# Altium footprint library Package_SO.PcbLib: 393 footprints (part 5 of 25)
Each footprint in its own frame and in the unit in brackets; x right, y up, seen from the top. Pads: shape width x height; smd on the part's side, far side on the other; paste and mask are expansions set on the pad; w line width, h text height; cw(c..) or ccw(c..) is an arc to the next point about the centre after c.
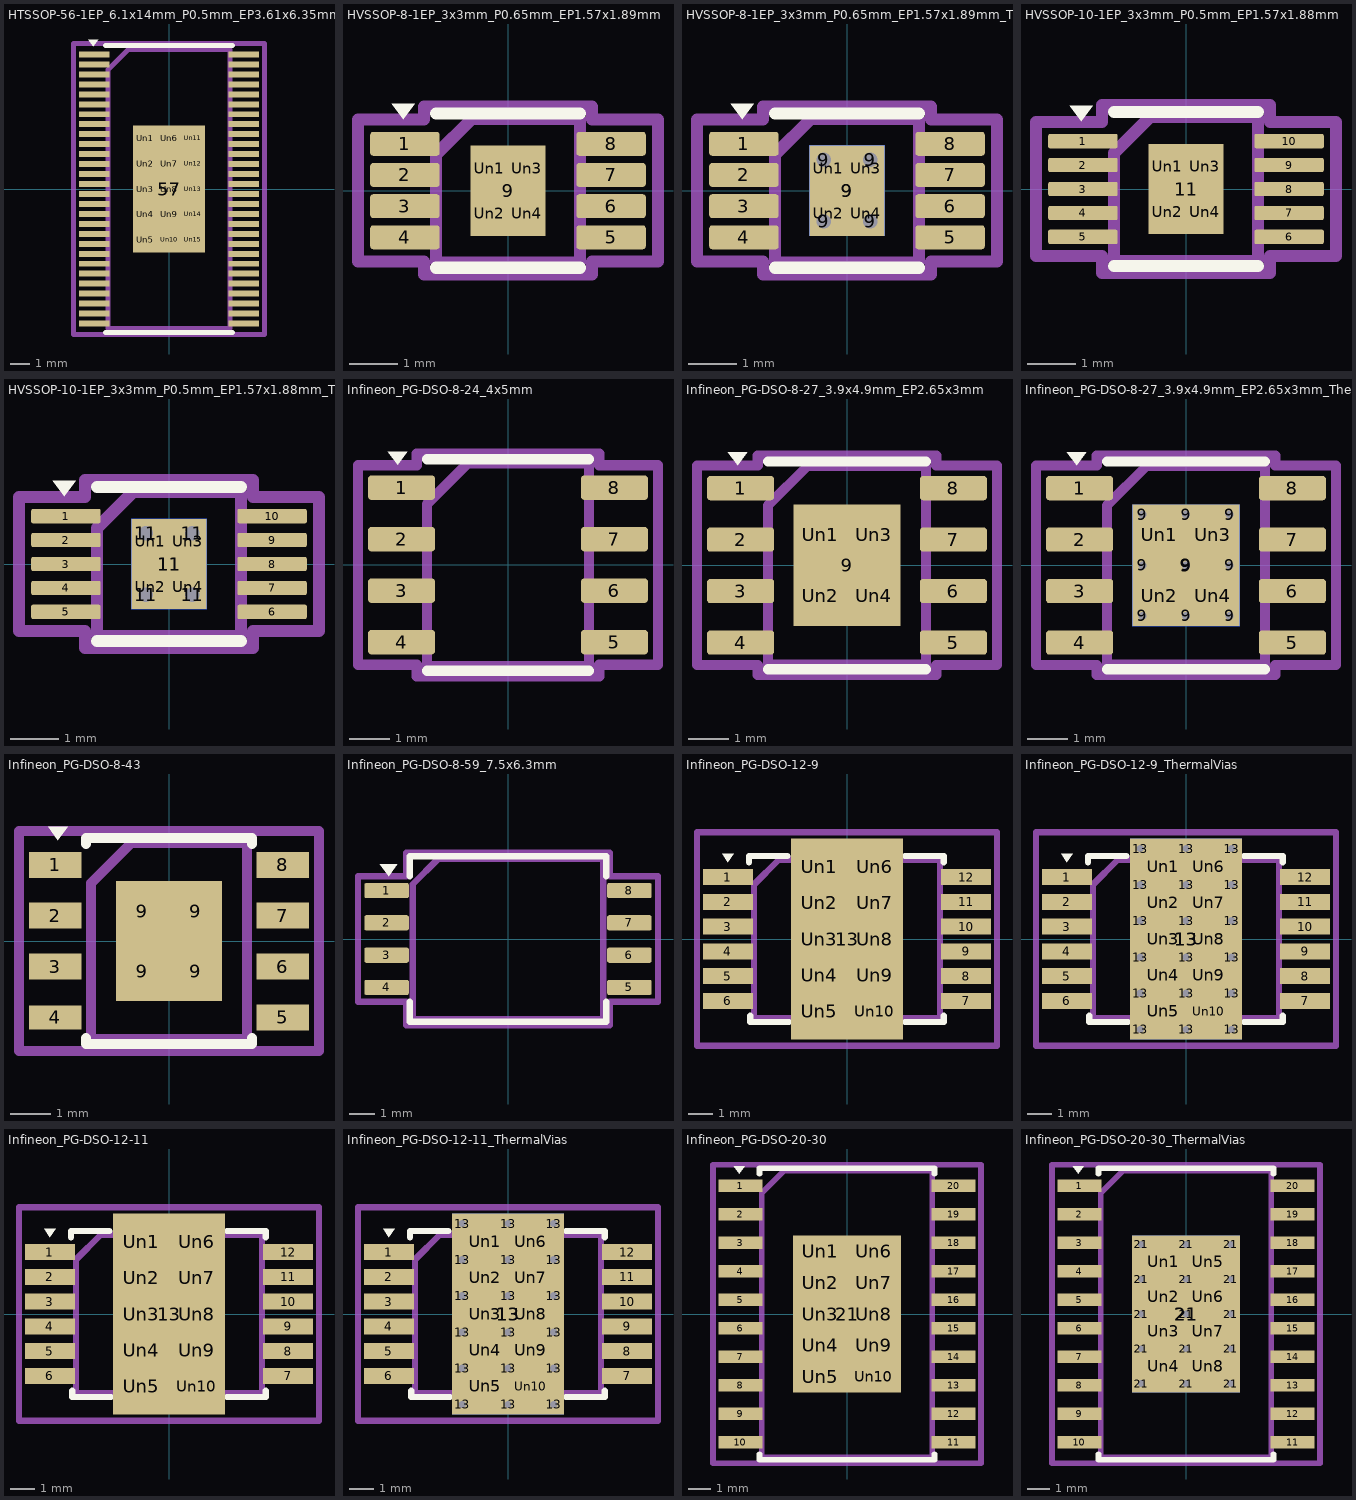
[diagram p4: the footprints below, top view; thin cyan lines are the x and y axes]

## HTSSOP-56-1EP_6.1x14mm_P0.5mm_EP3.61x6.35mm [mm]
pads (72):
  rect 1.55x0.3 smd: 1(-3.75,6.75) 2(-3.75,6.25) 3(-3.75,5.75) 4(-3.75,5.25) 5(-3.75,4.75) 6(-3.75,4.25) 7(-3.75,3.75) 8(-3.75,3.25) 9(-3.75,2.75) 10(-3.75,2.25) 11(-3.75,1.75) 12(-3.75,1.25) 13(-3.75,0.75) 14(-3.75,0.25) 15(-3.75,-0.25) 16(-3.75,-0.75) 17(-3.75,-1.25) 18(-3.75,-1.75) 19(-3.75,-2.25) 20(-3.75,-2.75) 21(-3.75,-3.25) 22(-3.75,-3.75) 23(-3.75,-4.25) 24(-3.75,-4.75) 25(-3.75,-5.25) 26(-3.75,-5.75) 27(-3.75,-6.25) 28(-3.75,-6.75) 29(3.75,-6.75) 30(3.75,-6.25) 31(3.75,-5.75) 32(3.75,-5.25) 33(3.75,-4.75) 34(3.75,-4.25) 35(3.75,-3.75) 36(3.75,-3.25) 37(3.75,-2.75) 38(3.75,-2.25) 39(3.75,-1.75) 40(3.75,-1.25) 41(3.75,-0.75) 42(3.75,-0.25) 43(3.75,0.25) 44(3.75,0.75) 45(3.75,1.25) 46(3.75,1.75) 47(3.75,2.25) 48(3.75,2.75) 49(3.75,3.25) 50(3.75,3.75) 51(3.75,4.25) 52(3.75,4.75) 53(3.75,5.25) 54(3.75,5.75) 55(3.75,6.25) 56(3.75,6.75)
  rect 3.61x6.35 smd: 57(0,0)
  rect 0.96x1.03 on Top Paste: Un1(-1.203,2.54) Un2(-1.203,1.27) Un3(-1.203,0) Un4(-1.203,-1.27) Un5(-1.203,-2.54) Un6(0,2.54) Un7(0,1.27) Un8(0,0) Un9(0,-1.27) Un10(0,-2.54) Un11(1.203,2.54) Un12(1.203,1.27) Un13(1.203,0) Un14(1.203,-1.27) Un15(1.203,-2.54)
F.SilkS:
  region: -3.8,7.15 -4.04,7.48 -3.56,7.48
  lines w0.254: -3.175,-7.2 3.175,-7.2 ; -3.175,7.2 3.175,7.2
Top Assembly:
  lines w0.254: -3.05,-7 3.05,-7 3.05,7 -2.05,7 -3.05,6 -3.05,-7
  text "'.Designator'" at -4.047,-0.84 h1
Top Courtyard:
  lines w0.254: -4.8,-7.3 4.8,-7.3 4.8,7.3 -4.8,7.3 -4.8,-7.3
Top Designator:
  text ".Designator" at -7.618,-0.481 h1.52

## HVSSOP-8-1EP_3x3mm_P0.65mm_EP1.57x1.89mm [mm]
pads (13):
  rrect25% 1.45x0.5 smd: 1(-2.15,0.975) 2(-2.15,0.325) 3(-2.15,-0.325) 4(-2.15,-0.975) 5(2.15,-0.975) 6(2.15,-0.325) 7(2.15,0.325) 8(2.15,0.975)
  rect 1.57x1.89 smd: 9(0,0)
  rrect25% 0.63x0.76 on Top Paste: Un1(-0.39,0.47) Un2(-0.39,-0.47) Un3(0.39,0.47) Un4(0.39,-0.47)
F.SilkS:
  region: -2.187,1.485 -2.428,1.815 -1.947,1.815
  lines w0.254: -1.5,-1.61 0,-1.61 1.5,-1.61 ; -1.5,1.61 0,1.61 1.5,1.61
Top Assembly:
  lines w0.254: -1.5,-1.5 1.5,-1.5 1.5,1.5 -0.75,1.5 -1.5,0.75 -1.5,-1.5
  text "'.Designator'" at -3.033,-0.628 h0.75
Top Courtyard:
  lines w0.254: -3.13,-1.48 -1.75,-1.48 -1.75,-1.75 1.75,-1.75 1.75,-1.48 3.13,-1.48 3.13,1.48 1.75,1.48 1.75,1.75 -1.75,1.75 -1.75,1.48 -3.13,1.48 -3.13,-1.48
Top Designator:
  text ".Designator" at -7.618,-0.508 h1.52

## HVSSOP-8-1EP_3x3mm_P0.65mm_EP1.57x1.89mm_ThermalVias [mm]
pads (18):
  rrect25% 1.45x0.5 smd: 1(-2.15,0.975) 2(-2.15,0.325) 3(-2.15,-0.325) 4(-2.15,-0.975) 5(2.15,-0.975) 6(2.15,-0.325) 7(2.15,0.325) 8(2.15,0.975)
  round 0.6 hole 0.3: 9(-0.485,-0.645) 9(-0.485,0.645) 9(0.485,-0.645) 9(0.485,0.645)
  rect 1.57x1.89 smd: 9(0,0)
  rect 1.57x1.89 smd far side: 9(0,0)
  rrect25% 0.63x0.76 on Top Paste: Un1(-0.39,0.47) Un2(-0.39,-0.47) Un3(0.39,0.47) Un4(0.39,-0.47)
F.SilkS:
  region: -2.187,1.485 -2.428,1.815 -1.947,1.815
  lines w0.254: -1.5,-1.61 0,-1.61 1.5,-1.61 ; -1.5,1.61 0,1.61 1.5,1.61
Top Assembly:
  lines w0.254: -1.5,-1.5 1.5,-1.5 1.5,1.5 -0.75,1.5 -1.5,0.75 -1.5,-1.5
  text "'.Designator'" at -3.033,-0.628 h0.75
Top Courtyard:
  lines w0.254: -3.13,-1.48 -1.75,-1.48 -1.75,-1.75 1.75,-1.75 1.75,-1.48 3.13,-1.48 3.13,1.48 1.75,1.48 1.75,1.75 -1.75,1.75 -1.75,1.48 -3.13,1.48 -3.13,-1.48
Top Designator:
  text ".Designator" at -7.618,-0.508 h1.52

## HVSSOP-10-1EP_3x3mm_P0.5mm_EP1.57x1.88mm [mm]
pads (15):
  rrect25% 1.45x0.3 smd: 1(-2.15,1) 2(-2.15,0.5) 3(-2.15,0) 4(-2.15,-0.5) 5(-2.15,-1) 6(2.15,-1) 7(2.15,-0.5) 8(2.15,0) 9(2.15,0.5) 10(2.15,1)
  rect 1.57x1.88 smd: 11(0,0)
  rrect25% 0.63x0.76 on Top Paste: Un1(-0.39,0.47) Un2(-0.39,-0.47) Un3(0.39,0.47) Un4(0.39,-0.47)
F.SilkS:
  region: -2.187,1.41 -2.428,1.74 -1.947,1.74
  lines w0.254: -1.5,-1.61 0,-1.61 1.5,-1.61 ; -1.5,1.61 0,1.61 1.5,1.61
Top Assembly:
  lines w0.254: -1.5,-1.5 1.5,-1.5 1.5,1.5 -0.75,1.5 -1.5,0.75 -1.5,-1.5
  text "'.Designator'" at -3.033,-0.628 h0.75
Top Courtyard:
  lines w0.254: -3.13,-1.4 -1.75,-1.4 -1.75,-1.75 1.75,-1.75 1.75,-1.4 3.13,-1.4 3.13,1.4 1.75,1.4 1.75,1.75 -1.75,1.75 -1.75,1.4 -3.13,1.4 -3.13,-1.4
Top Designator:
  text ".Designator" at -7.618,-0.508 h1.52

## HVSSOP-10-1EP_3x3mm_P0.5mm_EP1.57x1.88mm_ThermalVias [mm]
pads (20):
  rrect25% 1.45x0.3 smd: 1(-2.15,1) 2(-2.15,0.5) 3(-2.15,0) 4(-2.15,-0.5) 5(-2.15,-1) 6(2.15,-1) 7(2.15,-0.5) 8(2.15,0) 9(2.15,0.5) 10(2.15,1)
  round 0.6 hole 0.3: 11(-0.485,-0.64) 11(-0.485,0.64) 11(0.485,-0.64) 11(0.485,0.64)
  rect 1.57x1.88 smd: 11(0,0)
  rect 1.57x1.88 smd far side: 11(0,0)
  rrect25% 0.63x0.76 on Top Paste: Un1(-0.39,0.47) Un2(-0.39,-0.47) Un3(0.39,0.47) Un4(0.39,-0.47)
F.SilkS:
  region: -2.187,1.41 -2.428,1.74 -1.947,1.74
  lines w0.254: -1.5,-1.61 0,-1.61 1.5,-1.61 ; -1.5,1.61 0,1.61 1.5,1.61
Top Assembly:
  lines w0.254: -1.5,-1.5 1.5,-1.5 1.5,1.5 -0.75,1.5 -1.5,0.75 -1.5,-1.5
  text "'.Designator'" at -3.033,-0.628 h0.75
Top Courtyard:
  lines w0.254: -3.13,-1.4 -1.75,-1.4 -1.75,-1.75 1.75,-1.75 1.75,-1.4 3.13,-1.4 3.13,1.4 1.75,1.4 1.75,1.75 -1.75,1.75 -1.75,1.4 -3.13,1.4 -3.13,-1.4
Top Designator:
  text ".Designator" at -7.618,-0.508 h1.52

## Infineon_PG-DSO-8-24_4x5mm [mm]
pads (8):
  rrect25% 1.65x0.6 smd: 1(-2.625,1.905) 2(-2.625,0.635) 3(-2.625,-0.635) 4(-2.625,-1.905) 5(2.625,-1.905) 6(2.625,-0.635) 7(2.625,0.635) 8(2.625,1.905)
F.SilkS:
  region: -2.725,2.465 -2.965,2.795 -2.485,2.795
  lines w0.254: -2,-2.61 0,-2.61 2,-2.61 ; -2,2.61 0,2.61 2,2.61
Top Assembly:
  lines w0.254: -2,-2.5 2,-2.5 2,2.5 -1,2.5 -2,1.5 -2,-2.5
  text "'.Designator'" at -4.047,-0.84 h1
Top Courtyard:
  lines w0.254: -3.7,-2.46 -2.25,-2.46 -2.25,-2.75 2.25,-2.75 2.25,-2.46 3.7,-2.46 3.7,2.46 2.25,2.46 2.25,2.75 -2.25,2.75 -2.25,2.46 -3.7,2.46 -3.7,-2.46
Top Designator:
  text ".Designator" at -7.768,-0.508 h1.52

## Infineon_PG-DSO-8-27_3.9x4.9mm_EP2.65x3mm [mm]
pads (13):
  rrect25% 1.65x0.6 smd: 1(-2.625,1.905) 2(-2.625,0.635) 3(-2.625,-0.635) 4(-2.625,-1.905) 5(2.625,-1.905) 6(2.625,-0.635) 7(2.625,0.635) 8(2.625,1.905)
  rect 2.65x3 smd: 9(0,0)
  rrect23% 1.07x1.21 on Top Paste: Un1(-0.66,0.75) Un2(-0.66,-0.75) Un3(0.66,0.75) Un4(0.66,-0.75)
F.SilkS:
  region: -2.7,2.465 -2.94,2.795 -2.46,2.795
  lines w0.254: -1.95,-2.56 0,-2.56 1.95,-2.56 ; -1.95,2.56 0,2.56 1.95,2.56
Top Assembly:
  lines w0.254: -1.95,-2.45 1.95,-2.45 1.95,2.45 -0.975,2.45 -1.95,1.475 -1.95,-2.45
  text "'.Designator'" at -3.969,-0.827 h0.98
Top Courtyard:
  lines w0.254: -3.7,-2.46 -2.2,-2.46 -2.2,-2.7 2.2,-2.7 2.2,-2.46 3.7,-2.46 3.7,2.46 2.2,2.46 2.2,2.7 -2.2,2.7 -2.2,2.46 -3.7,2.46 -3.7,-2.46
Top Designator:
  text ".Designator" at -7.763,-0.508 h1.52

## Infineon_PG-DSO-8-27_3.9x4.9mm_EP2.65x3mm_ThermalVias [mm]
pads (23):
  rrect25% 1.65x0.6 smd: 1(-2.625,1.905) 2(-2.625,0.635) 3(-2.625,-0.635) 4(-2.625,-1.905) 5(2.625,-1.905) 6(2.625,-0.635) 7(2.625,0.635) 8(2.625,1.905)
  round 0.5 hole 0.2: 9(-1.075,-1.25) 9(-1.075,0) 9(-1.075,1.25) 9(0,-1.25) 9(0,0) 9(0,1.25) 9(1.075,-1.25) 9(1.075,0) 9(1.075,1.25)
  rect 2.65x3 smd: 9(0,0)
  rect 2.65x3 smd far side: 9(0,0)
  rrect23% 1.11x1.25 on Top Paste: Un1(-0.66,0.75) Un2(-0.66,-0.75) Un3(0.66,0.75) Un4(0.66,-0.75)
F.SilkS:
  region: -2.7,2.465 -2.94,2.795 -2.46,2.795
  lines w0.254: -1.95,-2.56 0,-2.56 1.95,-2.56 ; -1.95,2.56 0,2.56 1.95,2.56
Top Assembly:
  lines w0.254: -1.95,-2.45 1.95,-2.45 1.95,2.45 -0.975,2.45 -1.95,1.475 -1.95,-2.45
  text "'.Designator'" at -3.969,-0.827 h0.98
Top Courtyard:
  lines w0.254: -3.7,-2.46 -2.2,-2.46 -2.2,-2.7 2.2,-2.7 2.2,-2.46 3.7,-2.46 3.7,2.46 2.2,2.46 2.2,2.7 -2.2,2.7 -2.2,2.46 -3.7,2.46 -3.7,-2.46
Top Designator:
  text ".Designator" at -7.763,-0.508 h1.52

## Infineon_PG-DSO-8-43 [mm]
pads (12):
  rect 1.31x0.65 smd: 1(-2.845,1.905) 2(-2.845,0.635) 3(-2.845,-0.635) 5(2.845,-1.905) 6(2.845,-0.635) 7(2.845,0.635) 8(2.845,1.905)
  rect 1.31x0.6 smd: 4(-2.845,-1.905)
  rect 1.325x1.5 smd: 9(-0.663,-0.75) 9(-0.663,0.75) 9(0.663,-0.75) 9(0.663,0.75)
F.SilkS:
  region: -2.775,2.525 -3.015,2.855 -2.535,2.855
  lines w0.254: -2.075,-2.43 -2.075,-2.575 2.075,-2.575 2.075,-2.43 ; -2.075,2.43 -2.075,2.575 2.075,2.575 2.075,2.43
Top Assembly:
  lines w0.254: -1.95,-2.45 1.95,-2.45 1.95,2.45 -0.95,2.45 -1.95,1.45 -1.95,-2.45
  text "'.Designator'" at -3.642,-0.756 h0.9
Top Courtyard:
  lines w0.254: -3.75,-2.75 3.75,-2.75 3.75,2.75 -3.75,2.75 -3.75,-2.75
Top Designator:
  text ".Designator" at -7.618,-0.508 h1.52

## Infineon_PG-DSO-8-59_7.5x6.3mm [mm]
pads (8):
  rrect25% 1.75x0.6 smd: 1(-4.775,1.905) 2(-4.775,0.635) 3(-4.775,-0.635) 4(-4.775,-1.905) 5(4.775,-1.905) 6(4.775,-0.635) 7(4.775,0.635) 8(4.775,1.905)
F.SilkS:
  region: -4.7,2.465 -5.04,2.935 -4.36,2.935
  lines w0.254: -3.86,-2.465 -3.86,-3.26 0,-3.26 3.86,-3.26 3.86,-2.465 ; -3.86,2.465 -3.86,3.26 0,3.26 3.86,3.26 3.86,2.465
Top Assembly:
  lines w0.254: -3.75,-3.15 3.75,-3.15 3.75,3.15 -2.75,3.15 -3.75,2.15 -3.75,-3.15
  text "'.Designator'" at -4.047,-0.84 h1
Top Courtyard:
  lines w0.254: -5.9,-2.46 -4,-2.46 -4,-3.4 4,-3.4 4,-2.46 5.9,-2.46 5.9,2.46 4,2.46 4,3.4 -4,3.4 -4,2.46 -5.9,2.46 -5.9,-2.46
Top Designator:
  text ".Designator" at -7.618,-0.508 h1.52

## Infineon_PG-DSO-12-9 [mm]
pads (23):
  rect 2x0.65 smd: 1(-4.8,2.5) 2(-4.8,1.5) 3(-4.8,0.5) 4(-4.8,-0.5) 5(-4.8,-1.5) 6(-4.8,-2.5) 7(4.8,-2.5) 8(4.8,-1.5) 9(4.8,-0.5) 10(4.8,0.5) 11(4.8,1.5) 12(4.8,2.5)
  rect 4.5x8.1 smd: 13(0,0)
  rect 1.95x1.16 on Top Paste: Un1(-1.125,2.92) Un2(-1.125,1.46) Un3(-1.125,0) Un4(-1.125,-1.46) Un5(-1.125,-2.92) Un6(1.125,2.92) Un7(1.125,1.46) Un8(1.125,0) Un9(1.125,-1.46) Un10(1.125,-2.92)
F.SilkS:
  region: -4.8,3.1 -5.04,3.43 -4.56,3.43
  lines w0.254: -3.95,3.1 -3.95,3.35 -2.4,3.35 ; -3.9,-3.1 -3.9,-3.35 -2.35,-3.35 ; 2.35,-3.35 3.9,-3.35 3.9,-3.1 ; 2.35,3.35 3.9,3.35 3.9,3.1
Top Assembly:
  lines w0.254: -3.75,-3.2 -0.9,-3.2 -0.9,-3.9 0.9,-3.9 0.9,-3.2 3.75,-3.2 3.75,3.2 0.9,3.2 0.9,3.9 -0.9,3.9 -0.9,3.2 -2.75,3.2 -3.75,2.2 -3.75,-3.2
  text "'.Designator'" at -4.047,-0.84 h1
Top Courtyard:
  lines w0.254: -6.05,-4.3 6.05,-4.3 6.05,4.3 -6.05,4.3 -6.05,-4.3
Top Designator:
  text ".Designator" at -7.618,-0.508 h1.52

## Infineon_PG-DSO-12-9_ThermalVias [mm]
pads (42):
  rect 2x0.65 smd: 1(-4.8,2.5) 2(-4.8,1.5) 3(-4.8,0.5) 4(-4.8,-0.5) 5(-4.8,-1.5) 6(-4.8,-2.5) 7(4.8,-2.5) 8(4.8,-1.5) 9(4.8,-0.5) 10(4.8,0.5) 11(4.8,1.5) 12(4.8,2.5)
  round 0.8 hole 0.3: 13(-1.85,-3.65) 13(-1.85,-2.19) 13(-1.85,-0.73) 13(-1.85,0.73) 13(-1.85,2.19) 13(-1.85,3.65) 13(0,-3.65) 13(0,-2.19) 13(0,-0.73) 13(0,0.73) 13(0,2.19) 13(0,3.65) 13(1.85,-3.65) 13(1.85,-2.19) 13(1.85,-0.73) 13(1.85,0.73) 13(1.85,2.19) 13(1.85,3.65)
  rect 4.5x8.1 smd: 13(0,0)
  rect 4.5x8.1 smd far side: 13(0,0)
  rect 1.55x1.16 on Top Paste: Un1(-0.925,2.92) Un2(-0.925,1.46) Un3(-0.925,0) Un4(-0.925,-1.46) Un5(-0.925,-2.92) Un6(0.925,2.92) Un7(0.925,1.46) Un8(0.925,0) Un9(0.925,-1.46) Un10(0.925,-2.92)
F.SilkS:
  region: -4.8,3.1 -5.04,3.43 -4.56,3.43
  lines w0.254: -3.95,3.1 -3.95,3.35 -2.4,3.35 ; -3.9,-3.1 -3.9,-3.35 -2.35,-3.35 ; 2.35,-3.35 3.9,-3.35 3.9,-3.1 ; 2.35,3.35 3.9,3.35 3.9,3.1
Top Assembly:
  lines w0.254: -3.75,-3.2 -0.9,-3.2 -0.9,-3.9 0.9,-3.9 0.9,-3.2 3.75,-3.2 3.75,3.2 0.9,3.2 0.9,3.9 -0.9,3.9 -0.9,3.2 -2.75,3.2 -3.75,2.2 -3.75,-3.2
  text "'.Designator'" at -4.047,-0.84 h1
Top Courtyard:
  lines w0.254: -6.05,-4.3 6.05,-4.3 6.05,4.3 -6.05,4.3 -6.05,-4.3
Top Designator:
  text ".Designator" at -7.618,-0.508 h1.52

## Infineon_PG-DSO-12-11 [mm]
pads (23):
  rect 2x0.65 smd: 1(-4.8,2.5) 2(-4.8,1.5) 3(-4.8,0.5) 4(-4.8,-0.5) 5(-4.8,-1.5) 6(-4.8,-2.5) 7(4.8,-2.5) 8(4.8,-1.5) 9(4.8,-0.5) 10(4.8,0.5) 11(4.8,1.5) 12(4.8,2.5)
  rect 4.5x8.1 smd: 13(0,0)
  rect 1.95x1.16 on Top Paste: Un1(-1.125,2.92) Un2(-1.125,1.46) Un3(-1.125,0) Un4(-1.125,-1.46) Un5(-1.125,-2.92) Un6(1.125,2.92) Un7(1.125,1.46) Un8(1.125,0) Un9(1.125,-1.46) Un10(1.125,-2.92)
F.SilkS:
  region: -4.8,3.1 -5.04,3.43 -4.56,3.43
  lines w0.254: -3.95,3.1 -3.95,3.35 -2.4,3.35 ; -3.9,-3.1 -3.9,-3.35 -2.35,-3.35 ; 2.35,-3.35 3.9,-3.35 3.9,-3.1 ; 2.35,3.35 3.9,3.35 3.9,3.1
Top Assembly:
  lines w0.254: -3.75,-3.2 -0.9,-3.2 -0.9,-3.9 0.9,-3.9 0.9,-3.2 3.75,-3.2 3.75,3.2 0.9,3.2 0.9,3.9 -0.9,3.9 -0.9,3.2 -2.75,3.2 -3.75,2.2 -3.75,-3.2
  text "'.Designator'" at -4.047,-0.84 h1
Top Courtyard:
  lines w0.254: -6.05,-4.3 6.05,-4.3 6.05,4.3 -6.05,4.3 -6.05,-4.3
Top Designator:
  text ".Designator" at -7.618,-0.508 h1.52

## Infineon_PG-DSO-12-11_ThermalVias [mm]
pads (42):
  rect 2x0.65 smd: 1(-4.8,2.5) 2(-4.8,1.5) 3(-4.8,0.5) 4(-4.8,-0.5) 5(-4.8,-1.5) 6(-4.8,-2.5) 7(4.8,-2.5) 8(4.8,-1.5) 9(4.8,-0.5) 10(4.8,0.5) 11(4.8,1.5) 12(4.8,2.5)
  round 0.8 hole 0.3: 13(-1.85,-3.65) 13(-1.85,-2.19) 13(-1.85,-0.73) 13(-1.85,0.73) 13(-1.85,2.19) 13(-1.85,3.65) 13(0,-3.65) 13(0,-2.19) 13(0,-0.73) 13(0,0.73) 13(0,2.19) 13(0,3.65) 13(1.85,-3.65) 13(1.85,-2.19) 13(1.85,-0.73) 13(1.85,0.73) 13(1.85,2.19) 13(1.85,3.65)
  rect 4.5x8.1 smd: 13(0,0)
  rect 4.5x8.1 smd far side: 13(0,0)
  rect 1.55x1.16 on Top Paste: Un1(-0.925,2.92) Un2(-0.925,1.46) Un3(-0.925,0) Un4(-0.925,-1.46) Un5(-0.925,-2.92) Un6(0.925,2.92) Un7(0.925,1.46) Un8(0.925,0) Un9(0.925,-1.46) Un10(0.925,-2.92)
F.SilkS:
  region: -4.8,3.1 -5.04,3.43 -4.56,3.43
  lines w0.254: -3.95,3.1 -3.95,3.35 -2.4,3.35 ; -3.9,-3.1 -3.9,-3.35 -2.35,-3.35 ; 2.35,-3.35 3.9,-3.35 3.9,-3.1 ; 2.35,3.35 3.9,3.35 3.9,3.1
Top Assembly:
  lines w0.254: -3.75,-3.2 -0.9,-3.2 -0.9,-3.9 0.9,-3.9 0.9,-3.2 3.75,-3.2 3.75,3.2 0.9,3.2 0.9,3.9 -0.9,3.9 -0.9,3.2 -2.75,3.2 -3.75,2.2 -3.75,-3.2
  text "'.Designator'" at -4.047,-0.84 h1
Top Courtyard:
  lines w0.254: -6.05,-4.3 6.05,-4.3 6.05,4.3 -6.05,4.3 -6.05,-4.3
Top Designator:
  text ".Designator" at -7.618,-0.508 h1.52

## Infineon_PG-DSO-20-30 [mm]
pads (31):
  rect 1.95x0.55 smd: 1(-4.75,5.715) 2(-4.75,4.445) 3(-4.75,3.175) 4(-4.75,1.905) 5(-4.75,0.635) 6(-4.75,-0.635) 7(-4.75,-1.905) 8(-4.75,-3.175) 9(-4.75,-4.445) 10(-4.75,-5.715) 11(4.75,-5.715) 12(4.75,-4.445) 13(4.75,-3.175) 14(4.75,-1.905) 15(4.75,-0.635) 16(4.75,0.635) 17(4.75,1.905) 18(4.75,3.175) 19(4.75,4.445) 20(4.75,5.715)
  rect 4.8x7 smd: 21(0,0)
  rect 2.1x1.1 on Top Paste: Un1(-1.2,2.8) Un2(-1.2,1.4) Un3(-1.2,0) Un4(-1.2,-1.4) Un5(-1.2,-2.8) Un6(1.2,2.8) Un7(1.2,1.4) Un8(1.2,0) Un9(1.2,-1.4) Un10(1.2,-2.8)
F.SilkS:
  region: -4.8,6.25 -5.04,6.58 -4.56,6.58
  lines w0.254: -3.9,-6.25 -3.9,-6.5 3.9,-6.5 3.9,-6.25 ; -3.9,6.25 -3.9,6.5 3.9,6.5 3.9,6.25
Top Assembly:
  lines w0.254: -3.8,-6.4 3.8,-6.4 3.8,6.4 -2.8,6.4 -3.8,5.4 -3.8,-6.4
  text "'.Designator'" at -4.047,-0.84 h1
Top Courtyard:
  lines w0.254: -5.98,-6.65 5.98,-6.65 5.98,6.65 -5.98,6.65 -5.98,-6.65
Top Designator:
  text ".Designator" at -7.618,-0.508 h1.52

## Infineon_PG-DSO-20-30_ThermalVias [mm]
pads (45):
  rect 1.95x0.55 smd: 1(-4.75,5.715) 2(-4.75,4.445) 3(-4.75,3.175) 4(-4.75,1.905) 5(-4.75,0.635) 6(-4.75,-0.635) 7(-4.75,-1.905) 8(-4.75,-3.175) 9(-4.75,-4.445) 10(-4.75,-5.715) 11(4.75,-5.715) 12(4.75,-4.445) 13(4.75,-3.175) 14(4.75,-1.905) 15(4.75,-0.635) 16(4.75,0.635) 17(4.75,1.905) 18(4.75,3.175) 19(4.75,4.445) 20(4.75,5.715)
  round 0.8 hole 0.3: 21(-2,-3.1) 21(-2,-1.55) 21(-2,0) 21(-2,1.55) 21(-2,3.1) 21(0,-3.1) 21(0,-1.55) 21(0,0) 21(0,1.55) 21(0,3.1) 21(2,-3.1) 21(2,-1.55) 21(2,0) 21(2,1.55) 21(2,3.1)
  rect 4.8x7 smd: 21(0,0)
  rect 4.8x7 smd far side: 21(0,0)
  rect 1.7x1.25 on Top Paste: Un1(-1,2.325) Un2(-1,0.775) Un3(-1,-0.775) Un4(-1,-2.325) Un5(1,2.325) Un6(1,0.775) Un7(1,-0.775) Un8(1,-2.325)
F.SilkS:
  region: -4.8,6.25 -5.04,6.58 -4.56,6.58
  lines w0.254: -3.9,-6.25 -3.9,-6.5 3.9,-6.5 3.9,-6.25 ; -3.9,6.25 -3.9,6.5 3.9,6.5 3.9,6.25
Top Assembly:
  lines w0.254: -3.8,-6.4 3.8,-6.4 3.8,6.4 -2.8,6.4 -3.8,5.4 -3.8,-6.4
  text "'.Designator'" at -4.047,-0.84 h1
Top Courtyard:
  lines w0.254: -5.98,-6.65 5.98,-6.65 5.98,6.65 -5.98,6.65 -5.98,-6.65
Top Designator:
  text ".Designator" at -7.618,-0.508 h1.52